# Altium footprint library FT230XQ-R.PcbLib: 1 footprints
Each footprint in its own frame and in the unit in brackets; x right, y up, seen from the top. Pads: shape width x height; smd on the part's side, far side on the other; paste and mask are expansions set on the pad; w line width, h text height; cw(c..) or ccw(c..) is an arc to the next point about the centre after c.
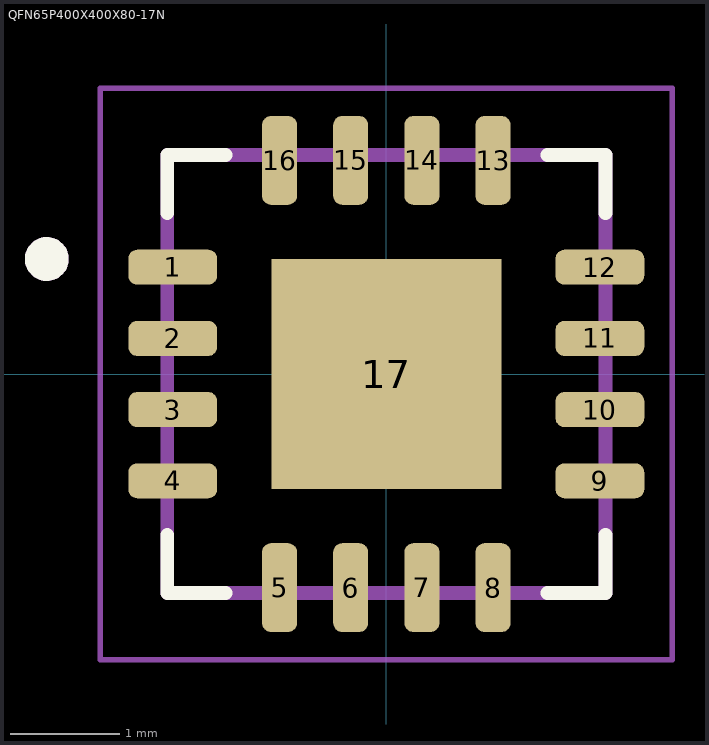
[diagram p0: the footprint, top view; thin cyan lines are the x and y axes]

## QFN65P400X400X80-17N [mm]
pads (17):
  rrect50% 0.81x0.32 smd: 1(-1.95,0.975) 2(-1.95,0.325) 3(-1.95,-0.325) 4(-1.95,-0.975) 9(1.95,-0.975) 10(1.95,-0.325) 11(1.95,0.325) 12(1.95,0.975)
  rrect50% 0.32x0.81 smd: 5(-0.975,-1.95) 6(-0.325,-1.95) 7(0.325,-1.95) 8(0.975,-1.95) 13(0.975,1.95) 14(0.325,1.95) 15(-0.325,1.95) 16(-0.975,1.95)
  rect 2.1x2.1 smd paste-2: 17(0,0)
Top Overlay:
  circle w0.2: c-3.1,1.05 r0.1
  lines w0.127: -2,-1.47 -2,-2 -1.47,-2 ; -2,1.47 -2,2 -1.47,2 ; 1.47,-2 2,-2 2,-1.47 ; 1.47,2 2,2 2,1.47
Top Paste:
  region: -0.13,-0.79 -0.79,-0.79 -0.79,-0.13 -0.13,-0.13
  region: 0.79,-0.79 0.13,-0.79 0.13,-0.13 0.79,-0.13
  region: 0.79,0.13 0.13,0.13 0.13,0.79 0.79,0.79
  region: -0.13,0.13 -0.79,0.13 -0.79,0.79 -0.13,0.79
Mechanical 13:
  circle w0.2: c-3.1,1.05 r0.1
  lines w0.127: -2,-2 -2,2 2,2 2,-2 -2,-2
Mechanical 15:
  lines w0.05: -2.61,-2.61 -2.61,2.61 2.61,2.61 2.61,-2.61 -2.61,-2.61
3D body "FT230XQ-R.step": height 0.8, standoff 0, extent -2,-2 2,2